# Altium footprint library Buttons.PcbLib: 19 footprints (part 1 of 2)
Each footprint in its own frame and in the unit in brackets; x right, y up, seen from the top. Pads: shape width x height; smd on the part's side, far side on the other; paste and mask are expansions set on the pad; w line width, h text height; cw(c..) or ccw(c..) is an arc to the next point about the centre after c.
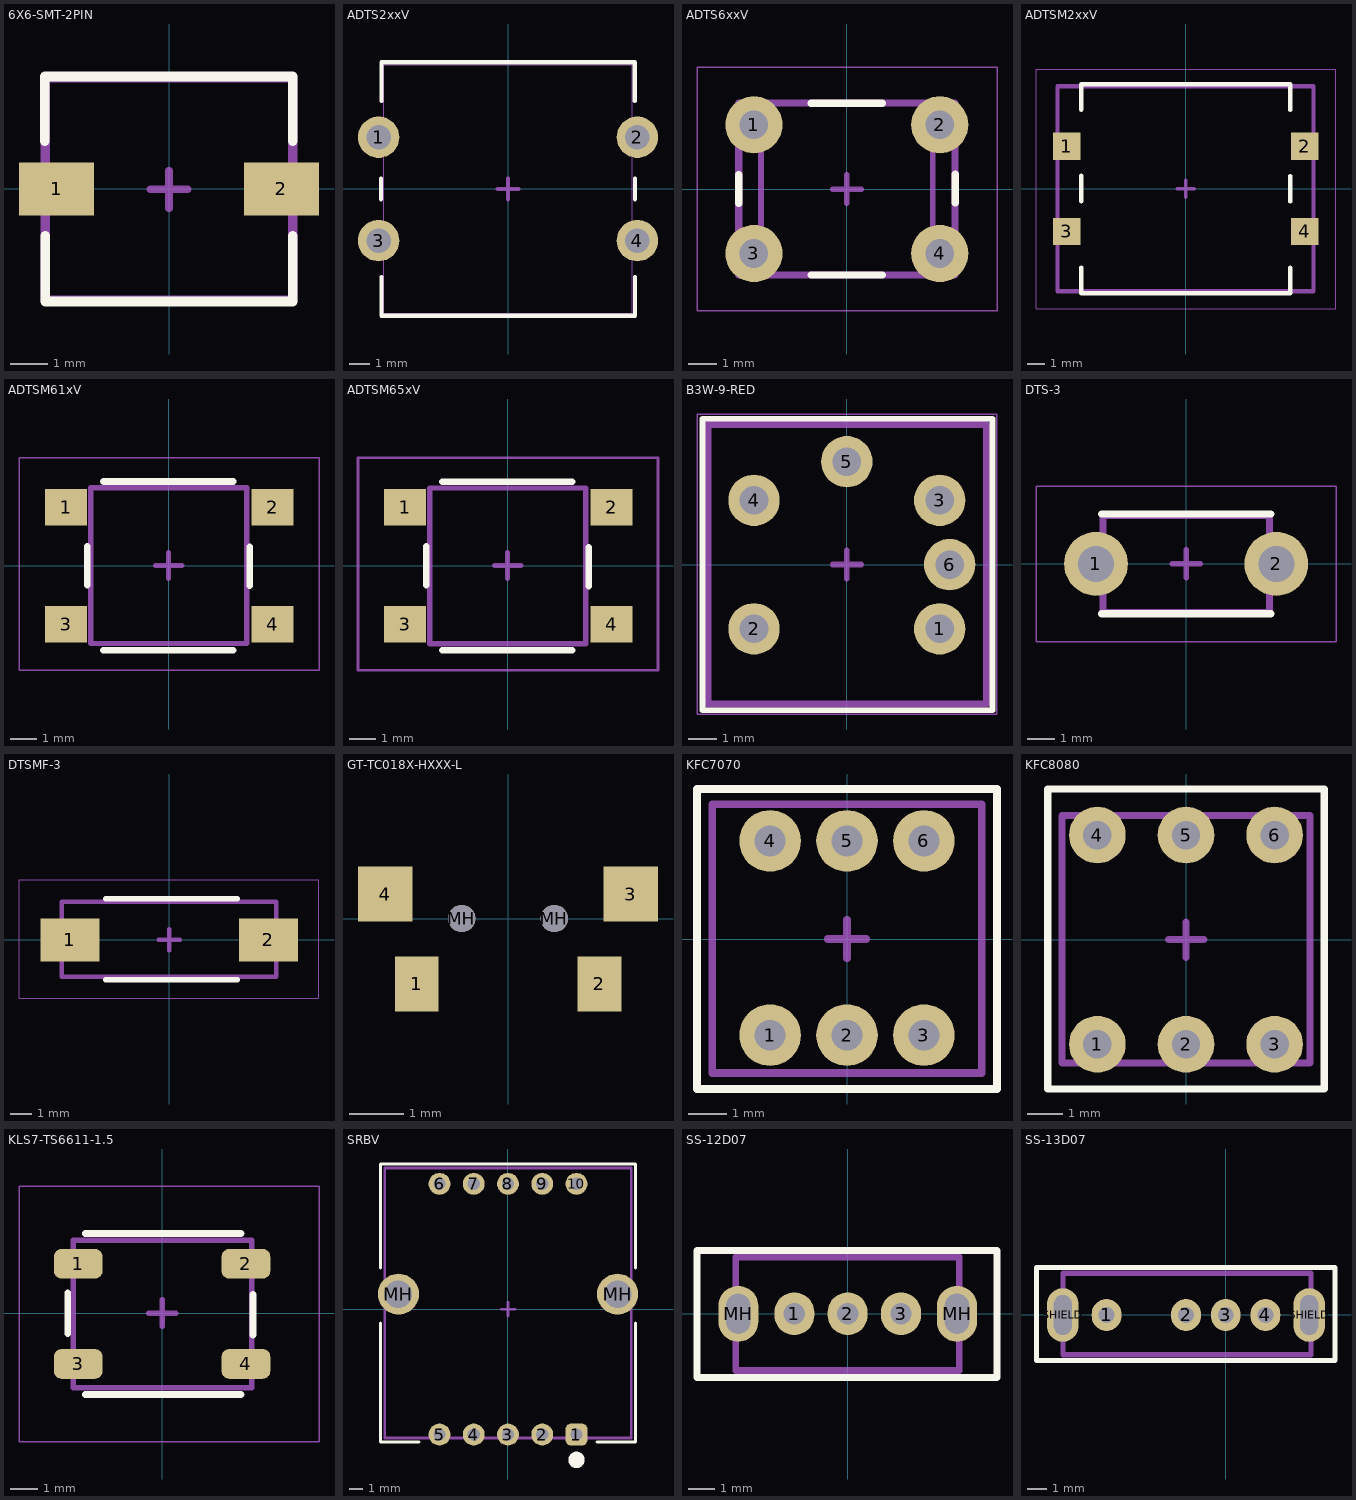
[diagram p0: the footprints below, top view; thin cyan lines are the x and y axes]

## 6X6-SMT-2PIN [mm]
pads (2):
  rect 2x1.4 smd: 1(-3,0) 2(3,0)
Top Overlay:
  lines w0.254: -3.31,1.275 -3.31,3 3.3,3 3.3,1.275 ; -3.3,-1.25 -3.3,-3 3.3,-3 3.3,-1.25
Mechanical 13:
  lines w0.254: -3.3,-2.97 3.3,-2.97 3.3,2.97 -3.3,2.97 -3.3,-2.97
Mechanical 15:
  lines w0.2: -0.497,-0.01 0.503,-0.01 ; 0,-0.508 0,0.492
3D body "skpmame010.stp": height 5, standoff 0, extent -3.3,-2.97 3.3,2.97

## ADTS2xxV [mm]
height 6
pads (4):
  round 2 hole 1.2: 1(-6.25,2.5) 2(6.25,2.5) 3(-6.25,-2.5) 4(6.25,-2.5)
Top Overlay:
  lines w0.2: -6.14,-0.498 -6.14,0.502 ; -6.12,4.25 -6.12,6.123 6.128,6.123 6.128,4.25 ; -6.118,-4.253 -6.118,-6.126 6.13,-6.126 6.13,-4.253 ; 6.14,-0.498 6.14,0.502
Mechanical 15:
  lines w0.05: -6,-6 -6,6 ; -5.997,-6 6.003,-6 ; -5.997,6 6.003,6 ; 6,-6 6,6
  lines w0.2: -0.497,0 0.503,0 ; 0,-0.498 0,0.502
3D body "430456043736.stp": height 4.4, standoff -3.4, extent -6.968,-6 7.008,6

## ADTS6xxV [mm]
height 6
pads (4):
  round 2 hole 1: 1(-3.25,2.25) 2(3.25,2.25) 3(-3.25,-2.25) 4(3.25,-2.25)
Top Overlay:
  lines w0.254: -3.78,-0.49 -3.78,0.51 ; -1.25,-3 1.25,-3 ; -1.25,3 1.25,3 ; 3.79,-0.48 3.79,0.52
Mechanical 13:
  lines w0.254: -3.78,-3 -3.78,3.01 -2.11,3.01 3.78,3.01 3.78,-3 -3.78,-3
Mechanical 15:
  lines w0.05: -5.24,-4.25 5.25,-4.25 5.25,4.26 -5.24,4.26 -5.24,1.797 -5.24,-4.25
  lines w0.2: -0.497,0 0.503,0 ; 0,-0.498 0,0.502 ; -3,-3 -3,3 3,3 3,-3 -3,-3
3D body "User Library-6x6x1 mm.step": height 4.8, standoff -3, extent -3.85,-3 3.85,3

## ADTSM2xxV [mm]
height 5
pads (4):
  rect 1.6x1.6 smd: 1(-6.97,2.5) 2(6.98,2.5) 3(-6.97,-2.5) 4(6.98,-2.5)
Top Overlay:
  lines w0.254: -6.125,-6.125 6.125,-6.125 6.125,-4.625 ; -6.125,6.125 6.125,6.125 ; -6.119,-6.115 -6.119,-4.615 ; -6.119,-0.74 -6.119,0.76 ; -6.119,4.63 -6.119,6.13 ; 6.125,-0.75 6.125,0.75 ; 6.125,4.62 6.125,6.12
Mechanical 13:
  lines w0.254: -7.51,-6.01 7.49,-6.01 7.49,6 -7.51,6 -7.51,-6.01
Mechanical 15:
  lines w0.05: -8.77,-7.027 8.813,-7.027 8.813,7 7.03,7 -8.77,7 -8.77,-7.027
  lines w0.2: -0.497,0 0.503,0 ; 0,-0.498 0,0.502
3D body "DTSM-2__.step": height 4.1, standoff 0, extent -7.49,-6.01 7.51,5.99

## ADTSM61xV [mm] "Tactile Switch H=4.3mm 0.05A 12VDC 6MM"
height 4.3
pads (4):
  rect 1.6x1.4 smd: 1(-3.95,2.25) 2(4,2.25) 3(-3.95,-2.25) 4(4,-2.25)
Top Overlay:
  lines w0.254: -3.13,-0.75 -3.13,0.75 ; -2.505,-3.25 2.495,-3.25 ; -2.505,3.24 2.495,3.24 ; 3.13,-0.78 3.13,0.72
Mechanical 15:
  lines w0.05: -5.76,-4.02 -5.76,2.43 -5.76,4.15 5.79,4.15 5.79,-4.02 -5.76,-4.02
  lines w0.2: -0.497,0.01 0.503,0.01 ; 0,-0.488 0,0.512 ; -2.994,-3 -2.994,3 3.006,3 3.006,-3 -2.994,-3
3D body "User Library-PTS645SL43SMTR92-LFS.STEP": height 4.3, standoff 0, extent -4.5,-3 4.5,3

## ADTSM65xV [mm] "Tactile Switch H=9.5mm 0.05A 12VDC 6MM"
height 9.5
pads (4):
  rect 1.6x1.4 smd: 1(-3.95,2.25) 2(4,2.25) 3(-3.95,-2.25) 4(4,-2.25)
Top Overlay:
  lines w0.254: -3.13,-0.75 -3.13,0.75 ; -2.505,-3.25 2.495,-3.25 ; -2.505,3.24 2.495,3.24 ; 3.13,-0.78 3.13,0.72
Mechanical 15:
  lines w0.1: 5.79,4.15 5.79,-4.02 -5.76,-4.02 -5.76,4.16 5.79,4.16
  lines w0.2: -0.497,0.01 0.503,0.01 ; 0,-0.488 0,0.512 ; -2.994,-3 3.006,-3 3.006,3 -2.994,3 -2.994,-3
3D body "User Library-PTS645SL95SMTR92-LFS.STEP": height 9.5, standoff 0, extent -4.5,-2.99 4.5,3.01

## B3W-9-RED [mm] "Illuminated Tactile Switches"
height 11
pads (6):
  round 1.8 hole 1: 1(3.25,-2.25) 2(-3.25,-2.25) 3(3.25,2.25) 4(-3.25,2.25) 5(0,3.6) 6(3.6,0)
Top Overlay:
  lines w0.2: -5.05,-5.1 5.1,-5.1 5.1,5.1 -5.05,5.1 -5.05,-5.1
Mechanical 13:
  lines w0.254: -4.87,-4.88 -4.87,4.9 4.89,4.9 4.89,-4.88 -4.87,-4.88
Mechanical 15:
  lines w0.05: -5.24,-5.23 5.25,-5.23 5.25,5.27 -5.24,5.27 -5.24,1.797 -5.24,-5.23
  lines w0.2: -0.497,0 0.503,0 ; 0,-0.498 0,0.502
3D body "b3w-9000-r1r.stp": height 11.5, standoff -5, extent -5,-5 5,5

## DTS-3 [mm]
height 5
pads (2):
  round 2.3 hole 1.3: 1(-3.25,0) 2(3.25,0)
Top Overlay:
  lines w0.254: -3.057,-1.798 3.065,-1.798 ; -3.057,1.796 3.065,1.796
Mechanical 13:
  lines w0.254: -3,-1.75 -3,0 -3,1.75 0,1.75 3,1.75 3,-1.75 0,-1.75 -3,-1.75
Mechanical 15:
  lines w0.05: -5.41,-2.81 -5.41,2.8 -3.19,2.8 5.4,2.8 5.4,-2.81 -5.41,-2.81
  lines w0.2: -0.497,0 0.503,0 ; 0,-0.498 0,0.502
3D body "xb-tc-1101t-a-b-b-2.stp": height 5.1, standoff -3.4, extent -3.95,-1.75 3.95,1.75

## DTSMF-3 [mm]
height 5
pads (2):
  rect 2.75x2 smd: 1(-4.625,0) 2(4.625,0)
Top Overlay:
  lines w0.254: -2.947,-1.858 3.175,-1.858 ; -2.947,1.916 3.175,1.916
Mechanical 13:
  lines w0.2: -5,-1.72 -5,1.78 5,1.78 5,-1.72 -5,-1.72
Mechanical 15:
  lines w0.05: -7,-2.71 -7,-0.99 -7,2.8 6.99,2.8 6.99,-2.71 -7,-2.71
  lines w0.2: -0.497,0.005 0.503,0.005 ; 0,-0.493 0,0.507
3D body "TL3302BF180QC-1.step": height 5, standoff 0, extent -5.2,-1.745 5.2,1.755

## GT-TC018X-HXXX-L [mm] "SMD, Right Angle With Bracket SMD,4.7x1.9mm"
height 1.9
pads (6):
  rect 0.8x1 smd: 1(-1.673,-1.2) 2(1.677,-1.2)
  rect 1x1 smd: 3(2.25,0.45) 4(-2.25,0.45)
  round 0.5 hole 0.5 unplated: MH(-0.85,0) MH(0.85,0)
3D body "xb-2x4x3_5-a.stp": height 1.8, standoff -0.5, extent -2.3,-1.6 2.3,2.1

## KFC7070 [mm] "DPDT Latching Square Plunger Through Hole DIP-6P,7x7mm Pushbutton Switches"
height 9.5
pads (6):
  round 1.6 hole 0.8: 1(-2,-2.5) 2(0,-2.5) 3(2,-2.5) 4(-2,2.55) 5(0,2.55) 6(2,2.55)
Top Overlay:
  lines w0.2: -3.9,-3.9 -3.9,3.9 3.9,3.9 3.9,-3.9 -3.9,-3.9
Mechanical 13:
  lines w0.2: -3.5,-3.484 -3.5,3.5 3.5,3.5 3.5,-3.4 3.5,-3.484 -3.5,-3.484
Mechanical 15:
  lines w0.2: -0.497,0 0.503,0 ; 0,-0.498 0,0.502
3D body "xb-7272-l.stp": height 10.6, standoff -3.1, extent -3.6,-3.6 3.6,3.6

## KFC8080 [mm] "DPDT Latching Square Plunger Through Hole DIP-6P,8x8mm Pushbutton Switches"
height 13.5
pads (6):
  round 1.6 hole 0.8: 1(-2.5,-2.95) 2(0,-2.95) 3(2.5,-2.95) 4(-2.5,2.95) 5(0,2.95) 6(2.5,2.95)
Top Overlay:
  lines w0.2: -3.9,-4.212 3.9,-4.212 3.9,4.25 -3.9,4.25 -3.9,-4.212
Mechanical 13:
  lines w0.2: -3.5,-3.484 3.5,-3.484 3.5,-3.4 3.5,3.5 -3.5,3.5 -3.5,-3.484
Mechanical 15:
  lines w0.2: -0.497,0 0.503,0 ; 0,-0.498 0,0.502
3D body "xb-7272-l.stp": height 10.6, standoff -3.1, extent -3.6,-3.6 3.6,3.6

## KLS7-TS6611-1.5 [mm]
height 1.5
pads (4):
  rrect50% 1.8x1.1 smd: 1(-3.11,1.83) 2(3.09,1.83) 3(-3.11,-1.87) 4(3.09,-1.87)
Top Overlay:
  lines w0.254: -3.5,-0.75 -3.5,0.75 ; -2.85,-3 2.9,-3 ; -2.85,2.95 2.9,2.95 ; 3.35,-0.8 3.35,0.7
Mechanical 15:
  lines w0.05: -5.3,-4.75 -5.3,1.97 -5.3,4.7 5.79,4.7 5.79,-4.75 -5.3,-4.75
  lines w0.2: -0.497,0.01 0.503,0.01 ; 0,-0.488 0,0.512 ; -3.3,-2.75 -3.3,2.7 3.3,2.7 3.3,-2.75 -3.3,-2.75
3D body "User Library-KLS7-TS6611-1_5.step": height 1.58, standoff 0.08, extent -3.2,-2.6 3.2,2.6

## SRBV [mm] "Rotary Switches"
height 25
pads (12):
  rrect50% 1.6x1.6 hole 0.9: 1(5,-9.15)
  round 1.6 hole 0.9: 2(2.5,-9.15) 3(0,-9.15) 4(-2.5,-9.15) 5(-5,-9.15) 6(-5,9.15) 7(-2.5,9.15) 8(0,9.15) 9(2.5,9.15) 10(5,9.15)
  round 3 hole 2: MH(-8,1.1) MH(8,1.1)
Top Overlay:
  circle w0.6: c5,-11 r0.3
  lines w0.2: -9.3,-1 -9.3,-9.7 -6.5,-9.7 ; -9.3,3 -9.3,10.6 -8.9,10.6 9.3,10.6 9.3,3 ; 6.5,-9.7 9.3,-9.7 9.3,-1
Mechanical 13:
  lines w0.2: -9,-9.4 -9,10.3 9,10.3 9,-9.4 -9,-9.4
Mechanical 15:
  lines w0.2: -0.497,0 0.503,0 ; 0,-0.498 0,0.502
3D body "SRBV141201.stp": height 28, standoff -3.5, extent -9.1,-9.325 9.099,10.5

## SS-12D07 [mm]
height 10
pads (5):
  oval 1.5x1.6 hole 0.8: 1(-2,0) 2(0,0) 3(2,0)
  oval 1.5x2.1 hole 0.9 slot 1.5 at 90 deg: MH(-4.1,0) MH(4.1,0)
Top Overlay:
  lines w0.254: -5.65,-2.385 5.6,-2.385 5.6,2.368 -5.65,2.368 -5.65,-2.385
Mechanical 13:
  lines w0.254: -4.2,-2.126 -4.2,2.129 4.186,2.129 4.186,-2.126 -4.2,-2.126
3D body "ss12d07l5b.stp": height 9.7, standoff -2.8, extent -4.3,-2.25 4.3,2.25

## SS-13D07 [mm] "Slider switch 12.8x4.5mm"
height 10
pads (6):
  oval 1.5x1.6 hole 0.8: 1(-6,0) 2(-2,0) 3(0,0) 4(2,0)
  oval 1.6x2.7 hole 0.9 slot 2 at 90 deg: SHIELD(-8.2,0) SHIELD(4.2,0)
Top Overlay:
  lines w0.254: -9.53,-2.3 5.5,-2.3 5.5,2.4 -9.53,2.4 -9.53,-2.3
Mechanical 13:
  lines w0.2: -8.2,-0.2 -8,0
  lines w0.254: -8.2,-2 4.3,-2 4.3,2.1 -8.2,2.1 -8.2,-2
3D body "xb-ss13d07l7r.stp": height 6.7, standoff -3.1, extent -8.35,-2.2 4.35,2.2